# EAGLE library part LT1763CS8-5TRPBF (library LT1763CS8-5TRPBF)
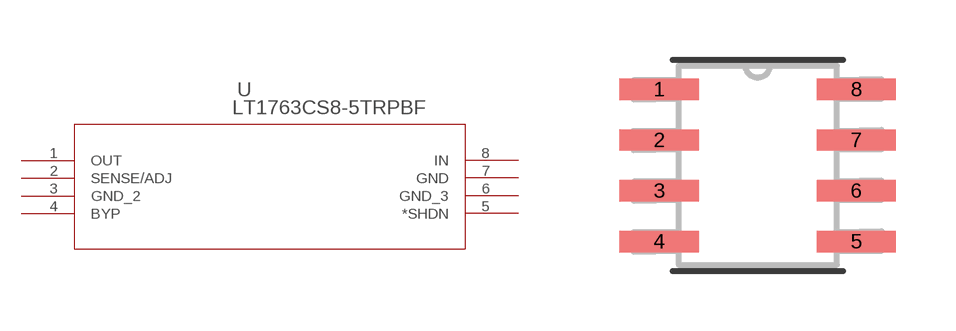
[diagram p0: symbol with the pads of SO-8_S; footprint SO-8_S]

Designator prefix U

## LT1763CS8-5TRPBF (Description: Linear Voltage Regulator IC Positive Fixed 1 Output 500mA 8-SOIC; Digi-Key_Part_Number: LT1763CS8-5#TRPBFCT-ND; Digi-Key_Purchase_URL: https://www.digikey.co.nz/product-detail/en/linear-technology-analog-devices/LT1763CS8-5-TRPBF/LT1763CS8-5-TRPBFCT-ND/3885224?utm_source=snapeda&utm_medium=aggregator&utm_campaign=symbol; MF: Linear Technology; MP: LT1763CS8-5#TRPBF; Package: SO-8 Linear Technology)  [SO-8_S]
1  OUT  out
2  SENSE/ADJ
3  GND_2  pwr
4  BYP  pas
5  *SHDN  pas
6  GND_3  pwr
7  GND  pwr
8  IN  in

## Footprint SO-8_S (pad centres in mm)
smd 1.981 x 0.533: 1 -2.464,1.905; 2 -2.464,0.635; 3 -2.464,-0.635; 4 -2.464,-1.905; 5 2.464,-1.905; 6 2.464,-0.635; 7 2.464,0.635; 8 2.464,1.905